# Altium integrated library ADP122AUJZ-3.3-R7.IntLib: 1 symbol
Pins are listed as number, name and electrical type; pins without a type are passive.

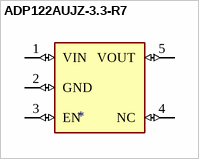
[diagram p0: symbol ADP122AUJZ-3.3-R7]

## ADP122AUJZ-3.3-R7
designator ?
Linear Voltage Regulator IC 1 Output 300mA TSOT-5; MP: ADP122AUJZ-3.3-R7; MF: Analog Devices; Value: *; SnapEDA_Link: https://www.snapeda.com/parts/ADP122AUJZ-3.3-R7/Analog%20Devices%20Inc./view-part/231148/?ref=snap; Price: None; Availability: Unavailable; Package: TSOT-5 Analog Devices
footprint TSOT23-5L
pins: 1 VIN (io), 2 GND (io), 3 EN (io), 4 NC (io), 5 VOUT (io)